# EAGLE library part DF15_40 (library con-hirose)
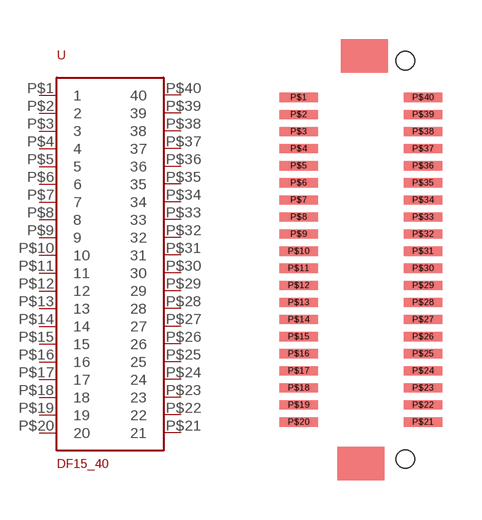
[diagram p36: symbol with the pads of DF15; footprint DF15]

Designator prefix -

## DF15_40  [DF15]
P$1  1
P$2  2
P$3  3
P$4  4
P$5  5
P$6  6
P$7  7
P$8  8
P$9  9
P$10  10
P$11  11
P$12  12
P$13  13
P$14  14
P$15  15
P$16  16
P$17  17
P$18  18
P$19  19
P$20  20
P$21  21
P$22  22
P$23  23
P$24  24
P$25  25
P$26  26
P$27  27
P$28  28
P$29  29
P$30  30
P$31  31
P$32  32
P$33  33
P$34  34
P$35  35
P$36  36
P$37  37
P$38  38
P$39  39
P$40  40

## Footprint DF15 (pad centres in mm)
smd 1.45 x 0.35: P$1 -2.366,6.175; P$2 -2.366,5.525; P$3 -2.366,4.875; P$4 -2.366,4.225; P$5 -2.366,3.575; P$6 -2.366,2.925; P$7 -2.366,2.275; P$8 -2.366,1.625; P$9 -2.366,0.975; P$10 -2.366,0.325; P$11 -2.366,-0.325; P$12 -2.366,-0.975; P$13 -2.366,-1.625; P$14 -2.366,-2.275; P$15 -2.366,-2.925; P$16 -2.366,-3.575; P$17 -2.366,-4.225; P$18 -2.366,-4.875; P$19 -2.366,-5.525; P$20 -2.366,-6.175; P$21 2.366,-6.175; P$22 2.366,-5.525; P$23 2.366,-4.875; P$24 2.366,-4.225; P$25 2.366,-3.575; P$26 2.366,-2.925; P$27 2.366,-2.275; P$28 2.366,-1.625; P$29 2.366,-0.975; P$30 2.366,-0.325; P$31 2.366,0.325; P$32 2.366,0.975; P$33 2.366,1.625; P$34 2.366,2.275; P$35 2.366,2.925; P$36 2.366,3.575; P$37 2.366,4.225; P$38 2.366,4.875; P$39 2.366,5.525; P$40 2.366,6.175
hole 0.7 at 1.693,7.577
hole 0.7 at 1.69,-7.583